# Altium footprint library PCB54622_PCB_Library.PcbLib: 4 footprints
Each footprint in its own frame and in the unit in brackets; x right, y up, seen from the top. Pads: shape width x height; smd on the part's side, far side on the other; paste and mask are expansions set on the pad; w line width, h text height; cw(c..) or ccw(c..) is an arc to the next point about the centre after c.
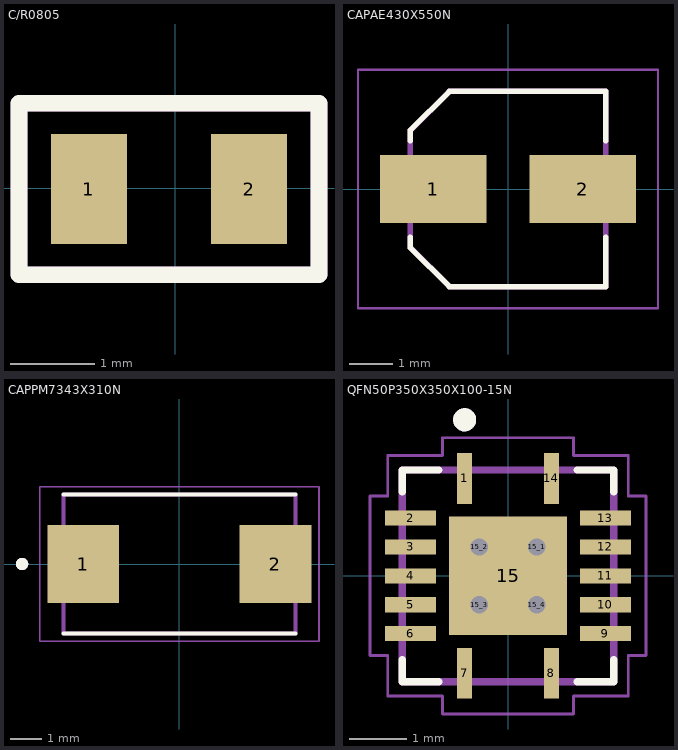
[diagram p0: the footprints below, top view; thin cyan lines are the x and y axes]

## C/R0805 [mm]
pads (2):
  rect 0.9x1.3 smd: 1(-1.023,-0.006) 2(0.877,-0.006)
Top Overlay:
  lines w0.2: 1.705,-1.022 -1.851,-1.022 -1.851,1.01 1.705,1.01 1.705,-0.982
Mechanical 29:
  lines w0.2: -1.851,-1.022 1.705,-1.022 1.705,1.01 -1.851,1.01 -1.851,-1.022
  text ".Designator" at -1.673,-0.906 h0.6
3D body "CAPC2012X95N EIA 0805.step": height 0.96, standoff 0.01, extent -1.057,-0.606 0.943,0.594

## CAPAE430X550N [mm]
pads (2):
  rect 2.46x1.58 smd: 1(-1.725,0) 2(1.725,0)
Top Overlay:
  lines w0.127: -2.25,-1.11 -2.25,-1.36 -1.35,-2.25 2.25,-2.25 2.25,-1.11 ; -2.25,1.11 -2.25,1.36 -1.35,2.25 2.25,2.25 2.25,1.11
Mechanical 4:
  lines w0.127: -2.25,-1.35 -1.35,-2.25 ; -2.25,-1.35 -2.25,1.35 ; -2.25,-1.35 -1.35,-2.25 ; -2.25,-1.35 -2.25,1.35 ; -2.25,1.35 -1.35,2.25 ; -2.25,1.35 -1.35,2.25 ; -1.35,-2.25 2.25,-2.25 ; -1.35,-2.25 2.25,-2.25 ; -1.35,2.25 2.25,2.25 ; -1.35,2.25 2.25,2.25 ; 2.25,-2.25 2.25,2.25 ; 2.25,-2.25 2.25,2.25
Mechanical 16:
  lines w0.05: -3.46,-2.75 -3.46,2.75 3.46,2.75 3.46,-2.75 -3.46,-2.75
3D body "PCAP_SVP_B6.step": height 6.05, standoff 0, extent -2.972,-2.794 3.226,2.718

## CAPPM7343X310N [mm]
pads (2):
  rect 2.31x2.52 smd: 1(-3.1,0) 2(3.1,0)
Top Overlay:
  circle w0.2: c-5.08,0 r0.1
  lines w0.127: -3.75,-2.25 3.75,-2.25 ; -3.75,2.25 3.75,2.25
Mechanical 4:
  circle w0.2: c-5.08,0 r0.1
  circle w0.2: c-5.08,0 r0.1
  lines w0.127: -3.75,-2.25 3.75,-2.25 ; -3.75,-2.25 -3.75,2.25 ; -3.75,-2.25 3.75,-2.25 ; -3.75,-2.25 -3.75,2.25 ; -3.75,2.25 3.75,2.25 ; -3.75,2.25 3.75,2.25 ; 3.75,-2.25 3.75,2.25 ; 3.75,-2.25 3.75,2.25
Mechanical 16:
  lines w0.05: -4.505,-2.5 4.505,-2.5 4.505,2.5 -4.505,2.5 -4.505,-2.5
3D body "T495D106M035ATE125.step": height 3.11, standoff 0, extent -3.9,-2.2 3.7,2.4

## QFN50P350X350X100-15N [mm]
pads (19):
  rect 0.26x0.88 smd: 1(-0.75,1.685) 7(-0.75,-1.685) 8(0.75,-1.685) 14(0.75,1.685)
  rect 0.88x0.26 smd: 2(-1.685,1) 3(-1.685,0.5) 4(-1.685,0) 5(-1.685,-0.5) 6(-1.685,-1) 9(1.685,-1) 10(1.685,-0.5) 11(1.685,0) 12(1.685,0.5) 13(1.685,1)
  rect 2.05x2.05 smd: 15(0,0)
  round 0.4 hole 0.3: 15_1(0.5,0.5) 15_2(-0.5,0.5) 15_3(-0.5,-0.5) 15_4(0.5,-0.5)
Top Overlay:
  circle w0.2: c-0.75,2.7 r0.1
  lines w0.127: -1.83,-1.45 -1.83,-1.83 -1.2,-1.83 ; -1.83,1.45 -1.83,1.83 -1.2,1.83 ; 1.2,-1.83 1.83,-1.83 1.83,-1.45 ; 1.2,1.83 1.83,1.83 1.83,1.45
Top Paste:
  region: -0.83,-0.1 -0.1,-0.1 -0.1,-0.83 -0.83,-0.83
  region: 0.1,0.83 0.83,0.83 0.83,0.1 0.1,0.1
  region: -0.83,0.83 -0.1,0.83 -0.1,0.1 -0.83,0.1
  region: 0.1,-0.1 0.83,-0.1 0.83,-0.83 0.1,-0.83
Mechanical 4:
  circle w0.2: c-0.75,2.7 r0.1
  circle w0.2: c-0.75,2.7 r0.1
  lines w0.127: -1.83,-1.83 -1.83,1.83 ; -1.83,-1.83 1.83,-1.83 ; -1.83,-1.83 -1.83,1.83 ; -1.83,-1.83 1.83,-1.83 ; -1.83,1.83 1.83,1.83 ; -1.83,1.83 1.83,1.83 ; 1.83,-1.83 1.83,1.83 ; 1.83,-1.83 1.83,1.83
Mechanical 16:
  lines w0.05: -2.39,-1.38 -2.39,1.38 -2.08,1.38 -2.08,2.08 -1.13,2.08 -1.13,2.39 1.13,2.39 1.13,2.08 2.08,2.08 2.08,1.38 2.39,1.38 2.39,-1.38 2.08,-1.38 2.08,-2.08 1.13,-2.08 1.13,-2.39 -1.13,-2.39 -1.13,-2.08 -2.08,-2.08 -2.08,-1.38 -2.39,-1.38
3D body "RHL14_2P05X2P05.step": height 0.74, standoff 0, extent -1.876,-1.876 1.876,1.876